# Altium footprint library Led.PcbLib: 80 footprints (part 5 of 5)
Each footprint in its own frame and in the unit in brackets; x right, y up, seen from the top. Pads: shape width x height; smd on the part's side, far side on the other; paste and mask are expansions set on the pad; w line width, h text height; cw(c..) or ccw(c..) is an arc to the next point about the centre after c.
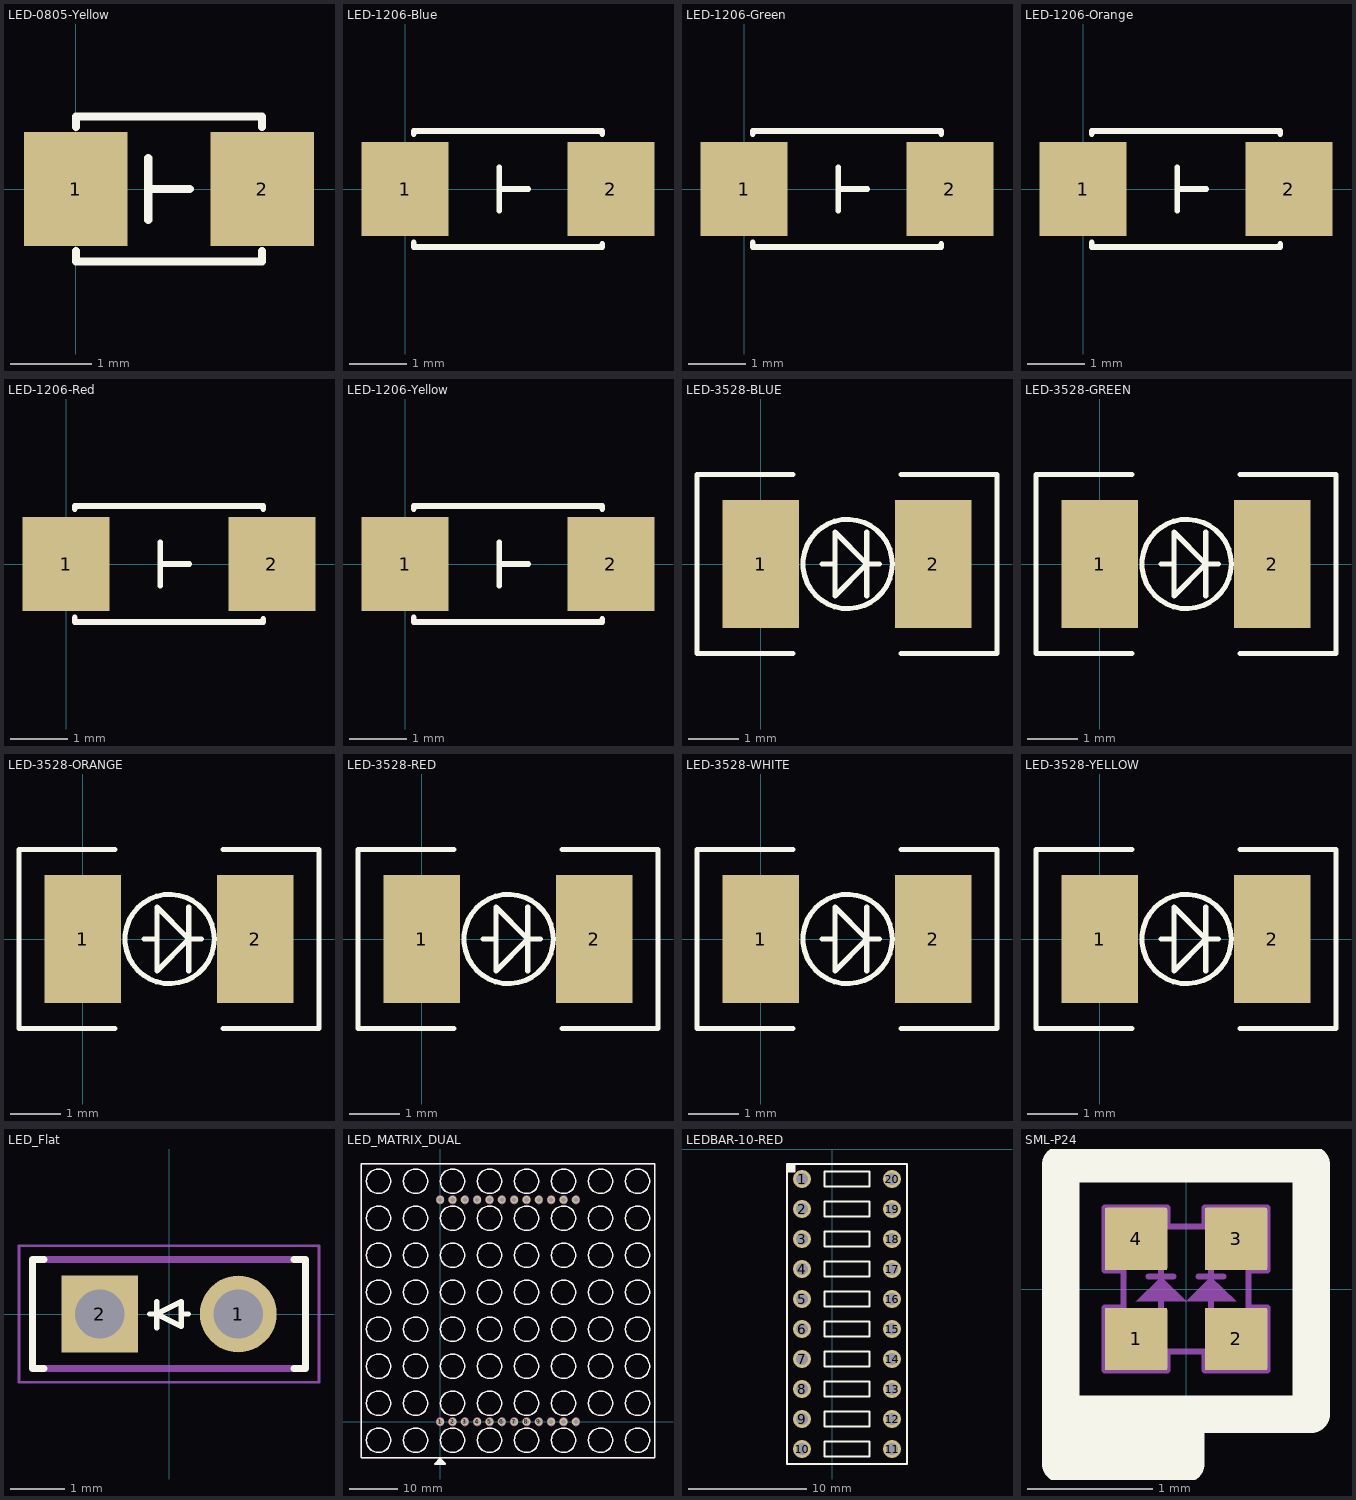
[diagram p4: the footprints below, top view; thin cyan lines are the x and y axes]

## LED-0805-Yellow [mil]
pads (2):
  rect 50x55 smd: 1(0,0) 2(90,0)
Top Overlay:
  lines w3.94: 35,-15 35,15 ; 35,0 55,0
  lines w4: 0,-30 0,-35 90,-35 90,-30 ; 0,30 0,35 90,35 90,30
3D body "User Library-led_0805-yellow.step": height 43.31, standoff 0, extent 5.24,-24.6 84.76,24.61

## LED-1206-Blue [mil] "Compoment SMD 120x60mil"
height 50
pads (2):
  rect 60x65 smd: 1(0,0) 2(142,0)
Top Overlay:
  lines w3.94: 65,-15 65,15 ; 65,0 85,0
  lines w4: 6,-37 6,-40 136,-40 136,-38 ; 6,38 6,40 136,40 136,38
3D body "User Library-led_1206-blue.step": height 43.31, standoff 0, extent 6.61,-31.5 133.39,31.5

## LED-1206-Green [mil]
pads (2):
  rect 60x65 smd: 1(0,0) 2(142,0)
Top Overlay:
  lines w3.94: 65,-15 65,15 ; 65,0 85,0
  lines w4: 6,-37 6,-40 136,-40 136,-38 ; 6,38 6,40 136,40 136,38
3D body "User Library-led_1206-green.step": height 43.31, standoff 0, extent 6.61,-31.5 133.38,31.49

## LED-1206-Orange [mil]
pads (2):
  rect 60x65 smd: 1(0,0) 2(142,0)
Top Overlay:
  lines w3.94: 65,-15 65,15 ; 65,0 85,0
  lines w4: 6,-37 6,-40 136,-40 136,-38 ; 6,38 6,40 136,40 136,38
3D body "User Library-led_1206-yellow.step": height 43.31, standoff 0, extent 6.61,-31.5 133.39,31.5

## LED-1206-Red [mil]
pads (2):
  rect 60x65 smd: 1(0,0) 2(142,0)
Top Overlay:
  lines w3.94: 65,-15 65,15 ; 65,0 85,0
  lines w4: 6,-37 6,-40 136,-40 136,-38 ; 6,38 6,40 136,40 136,38
3D body "User Library-led_1206-red.step": height 43.31, standoff 0, extent 6.61,-31.5 133.39,31.5

## LED-1206-Yellow [mil]
pads (2):
  rect 60x65 smd: 1(0,0) 2(142,0)
Top Overlay:
  lines w3.94: 65,-15 65,15 ; 65,0 85,0
  lines w4: 6,-37 6,-40 136,-40 136,-38 ; 6,38 6,40 136,40 136,38
3D body "User Library-led_1206-yellow.step": height 43.31, standoff 0, extent 6.61,-31.5 133.38,31.49

## LED-3528-BLUE [mil]
pads (2):
  rect 60x100 smd: 1(0,0) 2(135,0)
Top Overlay:
  circle w4: c68,0 r35
  lines w4: 25,-70 -50,-70 -50,70 25,70 ; 83,-25 83,0 ; 83,25 83,0 ; 93,0 83,0 ; 110,-70 185,-70 185,70 110,70 ; 58,0 48,0 58,0 ; 58,0 58,25 83,0 ; 58,0 58,-25 83,0
3D body: height 61, standoff 60, extent -2.8,-60 20,-37.2
3D body: height 70, standoff 60, extent 30,-40 110,40
3D body: height 60, standoff 15, extent -2.8,-60 137.4,60
3D body: height 19.68, standoff 0, extent 40,-60 95,60
3D body: height 43.31, standoff 0, extent -19.53,-31.5 -7.72,32.48
3D body: height 43.31, standoff 27.56, extent -19.53,-31.5 -2.8,32.48
3D body: height 11.81, standoff 0, extent -19.53,-31.5 18.86,32.48
3D body: height 11.81, standoff 0, extent 115.75,-31.5 154.13,32.48
3D body: height 43.31, standoff 27.56, extent 137.4,-31.5 154.13,32.48
3D body: height 43.31, standoff 0, extent 142.32,-31.5 154.13,32.48
3D body: height 75, standoff 60, extent -2.8,-60 137.4,60
3D body: height 65, standoff 60, extent 60,-10 75,5
3D body: height 61, standoff 60, extent 54.69,-36.96 110.35,36.96
3D body: height 61, standoff 60, extent 30,-10 50,5

## LED-3528-GREEN [mil]
pads (2):
  rect 60x100 smd: 1(0,0) 2(135,0)
Top Overlay:
  circle w4: c68,0 r35
  lines w4: 25,-70 -50,-70 -50,70 25,70 ; 83,-25 83,0 ; 83,25 83,0 ; 93,0 83,0 ; 110,-70 185,-70 185,70 110,70 ; 58,0 48,0 58,0 ; 58,0 58,25 83,0 ; 58,0 58,-25 83,0
3D body: height 61, standoff 60, extent -2.8,-60 20,-37.2
3D body: height 70, standoff 60, extent 30,-40 110,40
3D body: height 60, standoff 15, extent -2.8,-60 137.4,60
3D body: height 19.68, standoff 0, extent 40,-60 95,60
3D body: height 43.31, standoff 0, extent -19.53,-31.5 -7.72,32.48
3D body: height 43.31, standoff 27.56, extent -19.53,-31.5 -2.8,32.48
3D body: height 11.81, standoff 0, extent -19.53,-31.5 18.86,32.48
3D body: height 11.81, standoff 0, extent 115.75,-31.5 154.13,32.48
3D body: height 43.31, standoff 27.56, extent 137.4,-31.5 154.13,32.48
3D body: height 43.31, standoff 0, extent 142.32,-31.5 154.13,32.48
3D body: height 75, standoff 60, extent -2.8,-60 137.4,60
3D body: height 65, standoff 60, extent 60,-10 75,5
3D body: height 61, standoff 60, extent 54.69,-36.96 110.35,36.96
3D body: height 61, standoff 60, extent 30,-10 50,5

## LED-3528-ORANGE [mil]
pads (2):
  rect 60x100 smd: 1(0,0) 2(135,0)
Top Overlay:
  circle w4: c68,0 r35
  lines w4: 25,-70 -50,-70 -50,70 25,70 ; 83,-25 83,0 ; 83,25 83,0 ; 93,0 83,0 ; 110,-70 185,-70 185,70 110,70 ; 58,0 48,0 58,0 ; 58,0 58,25 83,0 ; 58,0 58,-25 83,0
3D body: height 61, standoff 60, extent -2.8,-60 20,-37.2
3D body: height 70, standoff 60, extent 30,-40 110,40
3D body: height 60, standoff 15, extent -2.8,-60 137.4,60
3D body: height 19.68, standoff 0, extent 40,-60 95,60
3D body: height 43.31, standoff 0, extent -19.53,-31.5 -7.72,32.48
3D body: height 43.31, standoff 27.56, extent -19.53,-31.5 -2.8,32.48
3D body: height 11.81, standoff 0, extent -19.53,-31.5 18.86,32.48
3D body: height 11.81, standoff 0, extent 115.75,-31.5 154.13,32.48
3D body: height 43.31, standoff 27.56, extent 137.4,-31.5 154.13,32.48
3D body: height 43.31, standoff 0, extent 142.32,-31.5 154.13,32.48
3D body: height 75, standoff 60, extent -2.8,-60 137.4,60
3D body: height 65, standoff 60, extent 60,-10 75,5
3D body: height 61, standoff 60, extent 54.69,-36.96 110.35,36.96
3D body: height 61, standoff 60, extent 30,-10 50,5

## LED-3528-RED [mil]
pads (2):
  rect 60x100 smd: 1(0,0) 2(135,0)
Top Overlay:
  circle w4: c68,0 r35
  lines w4: 25,-70 -50,-70 -50,70 25,70 ; 83,-25 83,0 ; 83,25 83,0 ; 93,0 83,0 ; 110,-70 185,-70 185,70 110,70 ; 58,0 58,-25 83,0 ; 58,0 48,0 58,0 ; 58,0 58,25 83,0
3D body: height 61, standoff 60, extent 30,-10 50,5
3D body: height 61, standoff 60, extent 54.69,-36.96 110.35,36.96
3D body: height 65, standoff 60, extent 60,-10 75,5
3D body: height 75, standoff 60, extent -2.8,-60 137.4,60
3D body: height 43.31, standoff 0, extent 142.32,-31.5 154.13,32.48
3D body: height 43.31, standoff 27.56, extent 137.4,-31.5 154.13,32.48
3D body: height 11.81, standoff 0, extent 115.75,-31.5 154.13,32.48
3D body: height 11.81, standoff 0, extent -19.53,-31.5 18.86,32.48
3D body: height 43.31, standoff 27.56, extent -19.53,-31.5 -2.8,32.48
3D body: height 43.31, standoff 0, extent -19.53,-31.5 -7.72,32.48
3D body: height 19.68, standoff 0, extent 40,-60 95,60
3D body: height 60, standoff 15, extent -2.8,-60 137.4,60
3D body: height 70, standoff 60, extent 30,-40 110,40
3D body: height 61, standoff 60, extent -2.8,-60 20,-37.2

## LED-3528-WHITE [mil]
pads (2):
  rect 60x100 smd: 1(0,0) 2(135,0)
Top Overlay:
  circle w4: c68,0 r35
  lines w4: 25,-70 -50,-70 -50,70 25,70 ; 83,-25 83,0 ; 83,25 83,0 ; 93,0 83,0 ; 110,-70 185,-70 185,70 110,70 ; 58,0 48,0 58,0 ; 58,0 58,25 83,0 ; 58,0 58,-25 83,0
3D body: height 61, standoff 60, extent -2.8,-60 20,-37.2
3D body: height 70, standoff 60, extent 30,-40 110,40
3D body: height 60, standoff 15, extent -2.8,-60 137.4,60
3D body: height 19.68, standoff 0, extent 40,-60 95,60
3D body: height 43.31, standoff 0, extent -19.53,-31.5 -7.72,32.48
3D body: height 43.31, standoff 27.56, extent -19.53,-31.5 -2.8,32.48
3D body: height 11.81, standoff 0, extent -19.53,-31.5 18.86,32.48
3D body: height 11.81, standoff 0, extent 115.75,-31.5 154.13,32.48
3D body: height 43.31, standoff 27.56, extent 137.4,-31.5 154.13,32.48
3D body: height 43.31, standoff 0, extent 142.32,-31.5 154.13,32.48
3D body: height 75, standoff 60, extent -2.8,-60 137.4,60
3D body: height 65, standoff 60, extent 60,-10 75,5
3D body: height 61, standoff 60, extent 54.69,-36.96 110.35,36.96
3D body: height 61, standoff 60, extent 30,-10 50,5

## LED-3528-YELLOW [mil]
pads (2):
  rect 60x100 smd: 1(0,0) 2(135,0)
Top Overlay:
  circle w4: c68,0 r35
  lines w4: 25,-70 -50,-70 -50,70 25,70 ; 83,-25 83,0 ; 83,25 83,0 ; 93,0 83,0 ; 110,-70 185,-70 185,70 110,70 ; 58,0 48,0 58,0 ; 58,0 58,25 83,0 ; 58,0 58,-25 83,0
3D body: height 61, standoff 60, extent -2.8,-60 20,-37.2
3D body: height 70, standoff 60, extent 30,-40 110,40
3D body: height 60, standoff 15, extent -2.8,-60 137.4,60
3D body: height 19.68, standoff 0, extent 40,-60 95,60
3D body: height 43.31, standoff 0, extent -19.53,-31.5 -7.72,32.48
3D body: height 43.31, standoff 27.56, extent -19.53,-31.5 -2.8,32.48
3D body: height 11.81, standoff 0, extent -19.53,-31.5 18.86,32.48
3D body: height 11.81, standoff 0, extent 115.75,-31.5 154.13,32.48
3D body: height 43.31, standoff 27.56, extent 137.4,-31.5 154.13,32.48
3D body: height 43.31, standoff 0, extent 142.32,-31.5 154.13,32.48
3D body: height 75, standoff 60, extent -2.8,-60 137.4,60
3D body: height 65, standoff 60, extent 60,-10 75,5
3D body: height 61, standoff 60, extent 54.69,-36.96 110.35,36.96
3D body: height 61, standoff 60, extent 30,-10 50,5

## LED_Flat [mm] "ID: WP113GDT"
height 8
pads (2):
  round 1.408 hole 0.9: 1(1.27,0)
  rect 1.408x1.408 / inner round 1.408 / far side rect 1.408x1.408 hole 0.9: 2(-1.27,0)
Top Overlay:
  lines w0.1: -0.356,0 -0.229,0 ; -0.229,-0.254 -0.229,0.229 ; 0.229,0 0.356,0 ; -0.229,0 0.229,0.229 0.229,-0.229 -0.229,0
  lines w0.127: -2.294,-1 -2.5,-1 -2.5,1 -2.294,1 ; 2.294,-1 2.5,-1 2.5,1 2.294,1
Mechanical 13:
  lines w0.127: -2.5,-1 2.5,-1 2.5,1 -2.5,1 -2.5,-1
Mechanical 15:
  lines w0.05: -2.75,-1.25 -2.75,1.25 2.75,1.25 2.75,-1.25 -2.75,-1.25

## LED_MATRIX_DUAL [mm] "BODY 60.45mmX60.45mm"
height 9.45
pads (24):
  round 1.6 hole 1 mask+0.1: 1(0,0) 2(2.54,0) 3(5.08,0) 4(7.62,0) 5(10.16,0) 6(12.7,0) 7(15.24,0) 8(17.78,0) 9(20.32,0) 10(22.86,0) 11(25.4,0) 12(27.94,0) 13(27.94,45.72) 14(25.4,45.72) 15(22.86,45.72) 16(20.32,45.72) 17(17.78,45.72) 18(15.24,45.72) 19(12.7,45.72) 20(10.16,45.72) 21(7.62,45.72) 22(5.08,45.72) 23(2.54,45.72) 24(0,45.72)
Top Overlay:
  circle w0.3: c40.64,-3.81 r2.5
  circle w0.3: c33.02,-3.81 r2.5
  circle w0.3: c25.4,-3.81 r2.5
  circle w0.3: c17.78,-3.81 r2.5
  circle w0.3: c10.16,-3.81 r2.5
  circle w0.3: c2.54,-3.81 r2.5
  circle w0.3: c-5.08,-3.81 r2.5
  circle w0.3: c-12.7,-3.81 r2.5
  circle w0.3: c40.64,3.81 r2.5
  circle w0.3: c33.02,3.81 r2.5
  circle w0.3: c25.4,3.81 r2.5
  circle w0.3: c17.78,3.81 r2.5
  circle w0.3: c10.16,3.81 r2.5
  circle w0.3: c2.54,3.81 r2.5
  circle w0.3: c-5.08,3.81 r2.5
  circle w0.3: c-12.7,3.81 r2.5
  circle w0.3: c40.64,49.53 r2.5
  circle w0.3: c40.64,41.91 r2.5
  circle w0.3: c40.64,34.29 r2.5
  circle w0.3: c40.64,26.67 r2.5
  circle w0.3: c40.64,19.05 r2.5
  circle w0.3: c40.64,11.43 r2.5
  circle w0.3: c33.02,49.53 r2.5
  circle w0.3: c33.02,41.91 r2.5
  circle w0.3: c33.02,34.29 r2.5
  circle w0.3: c33.02,26.67 r2.5
  circle w0.3: c33.02,19.05 r2.5
  circle w0.3: c33.02,11.43 r2.5
  circle w0.3: c25.4,49.53 r2.5
  circle w0.3: c25.4,41.91 r2.5
  circle w0.3: c25.4,34.29 r2.5
  circle w0.3: c25.4,26.67 r2.5
  circle w0.3: c25.4,19.05 r2.5
  circle w0.3: c25.4,11.43 r2.5
  circle w0.3: c17.78,49.53 r2.5
  circle w0.3: c17.78,41.91 r2.5
  circle w0.3: c17.78,34.29 r2.5
  circle w0.3: c17.78,26.67 r2.5
  circle w0.3: c17.78,19.05 r2.5
  circle w0.3: c17.78,11.43 r2.5
  circle w0.3: c10.16,49.53 r2.5
  circle w0.3: c10.16,41.91 r2.5
  circle w0.3: c10.16,34.29 r2.5
  circle w0.3: c10.16,26.67 r2.5
  circle w0.3: c10.16,19.05 r2.5
  circle w0.3: c10.16,11.43 r2.5
  circle w0.3: c2.54,49.53 r2.5
  circle w0.3: c2.54,41.91 r2.5
  circle w0.3: c2.54,34.29 r2.5
  circle w0.3: c2.54,26.67 r2.5
  circle w0.3: c2.54,19.05 r2.5
  circle w0.3: c2.54,11.43 r2.5
  circle w0.3: c-5.08,49.53 r2.5
  circle w0.3: c-5.08,41.91 r2.5
  circle w0.3: c-5.08,34.29 r2.5
  circle w0.3: c-5.08,26.67 r2.5
  circle w0.3: c-5.08,19.05 r2.5
  circle w0.3: c-5.08,11.43 r2.5
  circle w0.3: c-12.7,49.53 r2.5
  circle w0.3: c-12.7,41.91 r2.5
  circle w0.3: c-12.7,34.29 r2.5
  circle w0.3: c-12.7,26.67 r2.5
  circle w0.3: c-12.7,19.05 r2.5
  circle w0.3: c-12.7,11.43 r2.5
  lines w0.3: -16.255,-7.365 44.195,-7.365 44.195,53.085 -16.255,53.085 -16.255,-7.365
  lines w0.5: -0.3,-8.6 -0.3,-8 ; 0,-8.7 0,-7.7 ; 0.3,-8.5 0.3,-8 ; 0,-7.7 -1,-8.7 1,-8.7 0,-7.7
Mechanical 1:
  circle w0.05: c0,45.72 r0.8
  circle w0.05: c2.54,45.72 r0.8
  circle w0.05: c5.08,45.72 r0.8
  circle w0.05: c7.62,45.72 r0.8
  circle w0.05: c10.16,45.72 r0.8
  circle w0.05: c12.7,45.72 r0.8
  circle w0.05: c15.24,45.72 r0.8
  circle w0.05: c17.78,45.72 r0.8
  circle w0.05: c20.32,45.72 r0.8
  circle w0.05: c22.86,45.72 r0.8
  circle w0.05: c25.4,45.72 r0.8
  circle w0.05: c27.94,45.72 r0.8
  circle w0.05: c27.94,0 r0.8
  circle w0.05: c25.4,0 r0.8
  circle w0.05: c22.86,0 r0.8
  circle w0.05: c20.32,0 r0.8
  circle w0.05: c17.78,0 r0.8
  circle w0.05: c15.24,0 r0.8
  circle w0.05: c12.7,0 r0.8
  circle w0.05: c10.16,0 r0.8
  circle w0.05: c7.62,0 r0.8
  circle w0.05: c5.08,0 r0.8
  circle w0.05: c2.54,0 r0.8
  circle w0.05: c0,0 r0.8
  circle w0.05: c-12.7,19.05 r2.5
  circle w0.05: c10.16,41.91 r2.5
  circle w0.05: c17.78,19.05 r2.5
  circle w0.05: c10.16,34.29 r2.5
  circle w0.05: c10.16,49.53 r2.5
  circle w0.05: c-12.7,49.53 r2.5
  circle w0.05: c17.78,11.43 r2.5
  circle w0.05: c-5.08,41.91 r2.5
  circle w0.05: c17.78,34.29 r2.5
  circle w0.05: c-5.08,49.53 r2.5
  circle w0.05: c-5.08,26.67 r2.5
  circle w0.05: c17.78,26.67 r2.5
  circle w0.05: c-5.08,34.29 r2.5
  circle w0.05: c-5.08,19.05 r2.5
  circle w0.05: c2.54,26.67 r2.5
  circle w0.05: c-5.08,11.43 r2.5
  circle w0.05: c-12.7,26.67 r2.5
  circle w0.05: c2.54,19.05 r2.5
  circle w0.05: c2.54,11.43 r2.5
  circle w0.05: c-12.7,41.91 r2.5
  circle w0.05: c2.54,49.53 r2.5
  circle w0.05: c10.16,19.05 r2.5
  circle w0.05: c2.54,41.91 r2.5
  circle w0.05: c2.54,34.29 r2.5
  circle w0.05: c10.16,11.43 r2.5
  circle w0.05: c-12.7,34.29 r2.5
  circle w0.05: c10.16,26.67 r2.5
  circle w0.05: c25.4,11.43 r2.5
  circle w0.05: c40.64,-3.81 r2.5
  circle w0.05: c33.02,3.81 r2.5
  circle w0.05: c-5.08,3.81 r2.5
  circle w0.05: c10.16,3.81 r2.5
  circle w0.05: c-12.7,3.81 r2.5
  circle w0.05: c33.02,11.43 r2.5
  circle w0.05: c2.54,-3.81 r2.5
  circle w0.05: c2.54,3.81 r2.5
  circle w0.05: c17.78,49.53 r2.5
  circle w0.05: c33.02,49.53 r2.5
  circle w0.05: c40.64,26.67 r2.5
  circle w0.05: c40.64,11.43 r2.5
  circle w0.05: c25.4,3.81 r2.5
  circle w0.05: c40.64,49.53 r2.5
  circle w0.05: c25.4,49.53 r2.5
  circle w0.05: c-12.7,-3.81 r2.5
  circle w0.05: c25.4,41.91 r2.5
  circle w0.05: c17.78,-3.81 r2.5
  circle w0.05: c17.78,41.91 r2.5
  circle w0.05: c40.64,3.81 r2.5
  circle w0.05: c33.02,41.91 r2.5
  circle w0.05: c33.02,34.29 r2.5
  circle w0.05: c-5.08,-3.81 r2.5
  circle w0.05: c17.78,3.81 r2.5
  circle w0.05: c40.64,19.05 r2.5
  circle w0.05: c25.4,-3.81 r2.5
  circle w0.05: c33.02,26.67 r2.5
  circle w0.05: c33.02,-3.81 r2.5
  circle w0.05: c33.02,19.05 r2.5
  circle w0.05: c25.4,34.29 r2.5
  circle w0.05: c40.64,34.29 r2.5
  circle w0.05: c25.4,26.67 r2.5
  circle w0.05: c25.4,19.05 r2.5
  circle w0.05: c10.16,-3.81 r2.5
  circle w0.05: c40.64,41.91 r2.5
  circle w0.05: c-12.7,11.43 r2.5
  lines w0.05: -0.3,-8.69 -0.3,-8 ; 0,-8.7 0,-7.7 ; 0.3,-8.69 0.3,-8 ; 0,-7.7 1,-8.7 -1,-8.7 0,-7.7 ; -16.255,-7.365 44.195,-7.365 44.195,53.085 -16.255,53.085 -16.255,-7.365
  text "1" at -1.57,-0.61 h1
  text "12" at 29.09,-0.48 h1
  text "13" at 29.09,45.25 h1
  text "24" at -2.68,45.23 h1

## LEDBAR-10-RED [mil]
pads (20):
  round 60 hole 40 unplated mask+2: 1(-100,-100) 2(-100,-200) 3(-100,-300) 4(-100,-400) 5(-100,-500) 6(-100,-600) 7(-100,-700) 8(-100,-800) 9(-100,-900) 10(-100,-1000) 11(200,-1000) 12(200,-900) 13(200,-800) 14(200,-700) 15(200,-600) 16(200,-500) 17(200,-400) 18(200,-300) 19(200,-200) 20(200,-100)
Top Overlay:
  rectangle: -150,-75 -125,-50
  lines w6: -150,-75 -125,-75 -125,-50 ; -150,-1050 -150,-50 250,-50 250,-1050 -150,-1050 ; -25,-1025 -25,-975 125,-975 125,-1025 -25,-1025 ; -25,-925 125,-925 125,-875 -25,-875 -25,-925 ; -25,-825 -25,-775 125,-775 125,-825 -25,-825 ; -25,-725 125,-725 125,-675 -25,-675 -25,-725 ; -25,-625 125,-625 125,-575 -25,-575 -25,-625 ; -25,-525 -25,-475 125,-475 125,-525 -25,-525 ; -25,-425 125,-425 125,-375 -25,-375 -25,-425 ; -25,-325 -25,-275 125,-275 125,-325 -25,-325 ; -25,-225 125,-225 125,-175 -25,-175 -25,-225 ; -25,-125 -25,-75 125,-75 125,-125 -25,-125
3D body "DC-10.STEP": height 325, standoff -147.44, extent -150,-1050 250,-50

## SML-P24 [mm] "Dual Led SMD"
height 0.25
pads (4):
  rrect5% 0.5x0.5 smd mask+0.1: 1(-0.4,-0.4) 2(0.4,-0.4) 3(0.4,0.4) 4(-0.4,0.4)
Top Overlay:
  lines w0.3: -1,-1.2 0,-1.2 ; 0,-1 0,-1.4 -1,-1.4 -1,-1 ; -1,-1 -1,1 1,1 1,-1 -1,-1
Mechanical 1:
  region: 0,-0.1 0.4,-0.1 0.2,0.1
  region: -0.4,-0.1 0,-0.1 -0.2,0.1
  lines w0.05: -0.525,-0.15 -0.65,-0.15 -0.65,-0.65 -0.15,-0.65 -0.15,-0.525 ; -0.525,0.15 -0.65,0.15 -0.65,0.65 -0.15,0.65 -0.15,0.525 ; -0.4,0.3 -0.3,0.2 ; -0.4,0.38 -0.3,0.28 ; -0.3,0.1 -0.1,0.1 ; -0.2,-0.3 -0.2,0 ; -0.2,0.1 -0.2,0.3 ; 0.1,0.1 0.3,0.1 ; 0.15,-0.525 0.15,-0.65 0.65,-0.65 0.65,-0.15 0.525,-0.15 ; 0.15,0.525 0.15,0.65 0.65,0.65 0.65,0.15 0.525,0.15 ; 0.2,-0.3 0.2,0 ; 0.2,0.1 0.2,0.3 ; 0.3,0.2 0.4,0.3 ; 0.3,0.28 0.4,0.38 ; -0.5,-0.5 0.5,-0.5 0.5,0.5 -0.5,0.5 -0.5,-0.5
  text "LED?" at 0,0 h0.8